# Altium schematic symbol library Diodes.SchLib: 9 symbols
Pins are listed as number, name and electrical type; pins without a type are passive.

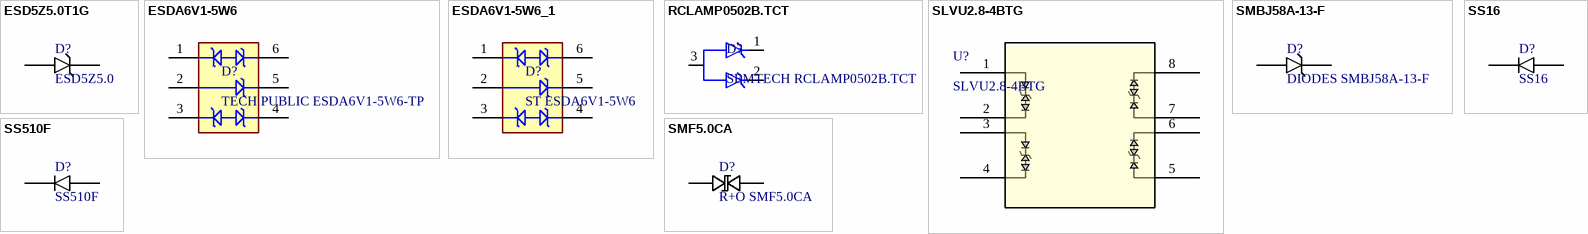
[diagram p0: symbols ESD5Z5.0T1G to SS510F]

## ESD5Z5.0T1G
designator D?, comment ESD5Z5.0
18.6VC Clamp 9.4A Ipp ESD DIODE SOD-523; val: ESD5Z5.0; note: *; sample link: https://www.lcsc.com/product-detail/C397782.html; unit price: $ 0.0252
footprint SOD-523_0P9X1P3_ONS
pins: 1, 2

## ESDA6V1-5W6
designator D?, comment TECH PUBLIC ESDA6V1-5W6-TP
12VC Clamp 11A@8/20us Ipp SOT-363; val: TECH PUBLIC ESDA6V1-5W6-TP; note: *; sample link: https://www.lcsc.com/product-detail/C970031.html?s_z=n_ESDA6V1-5W6; unit price: $ 0.0887
footprint DIO_ESDA6V1-5W6
pins: 1, 2, 3, 4, 5, 6

## ESDA6V1-5W6_1
designator D?, comment ST ESDA6V1-5W6
6.1VC Clamp 200mA Ipp ESD DIODE SOT-323-6L; val: ST ESDA6V1-5W6; sample link: https://www.lcsc.com/product-detail/C87908.html?s_z=n_ESDA6V1-5W6; unit price: $ 0.2477
footprint DIO_ESDA6V1-5W6
pins: 1, 2, 3, 4, 5, 6

## RCLAMP0502B.TCT
designator D?, comment SEMTECH RCLAMP0502B.TCT
TVS DIODE 5VWM 18VC SOT-666-6; val: SEMTECH RCLAMP0502B.TCT; note: *; sample link: https://www.lcsc.com/product-detail/C76390.html?s_z=n_q_SEMTECH%2520RCLAMP0502B.TCT&spm=wm.fly.bg.0.xh&lcsc_vid=Q1EKUldeTgUIV1NUQFBWUFEEQFYPUQJfR1BeUFZRR1UxVlNeT1ZZUFdTTlNZUzsOAxUeFF5JWBYZEEoKFBINSQcJGk4eFQsCAgIaSgADAwAHC0slRlBZUlJUWQkaCgg%3D; unit price: $ 0.3574
footprint TVS_RCLAMP0502B.TCT
pins: 1 K1, 2 K2, 3 A

## SLVU2.8-4BTG
designator U?
TVS DIODE 2.8VWM 15VC SOIC-8; val: SLVU2.8-4BTG; note: *; sample link: https://www.lcsc.com/product-detail/C2763559.html?s_z=n_q_SLVU2.8-4&spm=wm.fly.bg.0.xh&lcsc_vid=RVhdAVNUQwAIV1dSEwBWUF1URFhWXgYERVENVQEAQVExVlNRT1lcXlBfRlBXUTsOAxUeFF5JWBYZEEoKFBINSQcJGk4NBhADEA4cHktXQ1NXSQwSGg0%3D; unit price: $ 1.2187
footprint SOIC-8_LTF
pins: 1, 2, 3, 4, 5, 6, 7, 8

## SMBJ58A-13-F
designator D?, comment DIODES SMBJ58A-13-F
93.6VC Clamp 6.4A Ipp TVS DIODE SMB; val: DIODES SMBJ58A-13-F; note: *; sample link: https://www.lcsc.com/product-detail/C135085.html?s_z=n_SMBJ58A-13-F; unit price: $ 0.1912
footprint DO214AA (Molded Capacitor, 2-Leads, Body 6,85x5,91mm, IPC Medium Density)
pins: 1, 2

## SMF5.0CA
designator D?, comment R+O SMF5.0CA
9.2VC Clamp 21.7A@10/1000us Ipp TVS DIODE SOD-123FL; val: R+O SMF5.0CA; note: *; sample link: https://www.lcsc.com/product-detail/C19077498.html?s_z=n_q_bidirectional%2520TVS%2520diode&spm=wm.fly.bg.11.xh___wm.fly.tp.3.ml&lcsc_vid=FVFdBVUFR1ULBQFWR1cKXlxXQwQPVFVUQFJaUFIARFkxVlNRQFVaXlBfRFFZXzsOAxUeFF5JWBYZEEoKFBINSQcJGk4eFQsCAgIaSgADAwAHC0slQ1NdXlFXTlNADxALGw%3D%3D; unit price: $ 0.0293
footprint SOD-123FL
pins: P$1 1, P$2 2

## SS16
designator D?
Independent 60V 700mV@1A 1A SMA(DO-214AC) Single Diodes RoHS; note: any manufacturer; val: SS16; sample link: https://www.lcsc.com/product-detail/Schottky-Barrier-Diodes-SBD_GOODWORK-SS16_C2943739.html; unit price: $ 0.0122
footprint DO-214AC (SODFL, 2-Leads, Body 1,30x2,50mm, IPC Medium Density)
pins: 1, 2

## SS510F
designator D?
100V 850mV@5A 5A SMAF Schottky Diodes ROHS; note: any manufacturer; val: SS510F; sample link: https://www.lcsc.com/product-detail/Schottky-Diodes_XUMAO-SS510F_C22466253.html; unit price: $ 0.0606
footprint SMAF
pins: 1, 2